# Altium schematic symbol library PEC12R-3220F-S0024.SchLib: 1 symbol
Pins are listed as number, name and electrical type; pins without a type are passive.

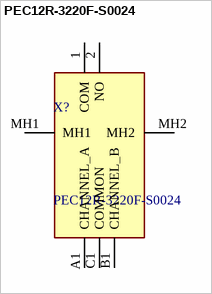
[diagram p0: symbol PEC12R-3220F-S0024]

## PEC12R-3220F-S0024
designator X?
Encoders HORZ 24DET 24PULSE 20mm SHAFT SPST SW; Manufacturer_Name: Bourns; Geometry.Height: 22.5mm; Manufacturer_Part_Number: PEC12R-3220F-S0024; Mouser Part Number: 652-PEC12R3220FS0024; Mouser Price/Stock: https://www.mouser.co.uk/ProductDetail/Bourns/PEC12R-3220F-S0024?qs=%252B9%2Fcbd0IE0Tm%252BWkxcjszVA%3D%3D; Arrow Part Number: PEC12R-3220F-S0024; Arrow Price/Stock: https://www.arrow.com/en/products/pec12r-3220f-s0024/bourns?region=nac; Datasheet Link: https://www.bourns.com/docs/Product-Datasheets/PEC12R.pdf
footprint PEC12R3220FS0024
pins: 1 COM, 2 NO, A1 CHANNEL_A, B1 CHANNEL_B, C1 COMMON, MH1, MH2